# EAGLE library part MFI_CHIP (library MFI_chip)
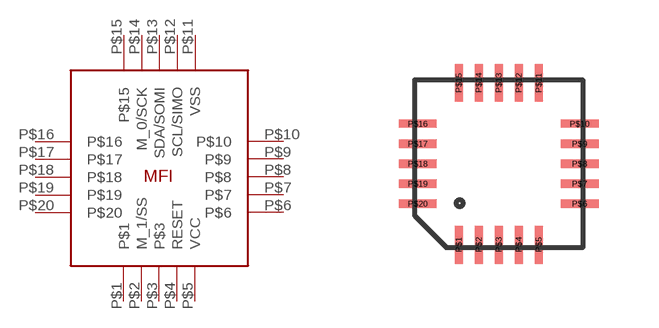
[diagram p0: symbol with the pads of MFI_CHIP; footprint MFI_CHIP]

Designator prefix -

## MFI_CHIPQFM  [MFI_CHIP]
P$1  P$1
P$2  M_1/SS
P$3  P$3
P$4  RESET
P$5  VCC
P$6  P$6
P$7  P$7
P$8  P$8
P$9  P$9
P$10  P$10
P$11  VSS
P$12  SCL/SIMO
P$13  SDA/SOMI
P$14  M_0/SCK
P$15  P$15
P$16  P$16
P$17  P$17
P$18  P$18
P$19  P$19
P$20  P$20

## Footprint MFI_CHIP (pad centres in mm)
smd 0.2 x 0.95: P$1 1.1,0.075; P$2 1.6,0.075; P$3 2.1,0.075; P$4 2.6,0.075; P$5 3.1,0.075; P$11 3.1,4.125; P$12 2.6,4.125; P$13 2.1,4.125; P$14 1.6,4.125; P$15 1.1,4.125
smd 0.95 x 0.2: P$6 4.125,1.1; P$7 4.125,1.6; P$8 4.125,2.1; P$9 4.125,2.6; P$10 4.125,3.1; P$16 0.075,3.1; P$17 0.075,2.6; P$18 0.075,2.1; P$19 0.075,1.6; P$20 0.075,1.1